# Altium footprint library Passives.PcbLib: 126 footprints (part 3 of 8)
Each footprint in its own frame and in the unit in brackets; x right, y up, seen from the top. Pads: shape width x height; smd on the part's side, far side on the other; paste and mask are expansions set on the pad; w line width, h text height; cw(c..) or ccw(c..) is an arc to the next point about the centre after c.
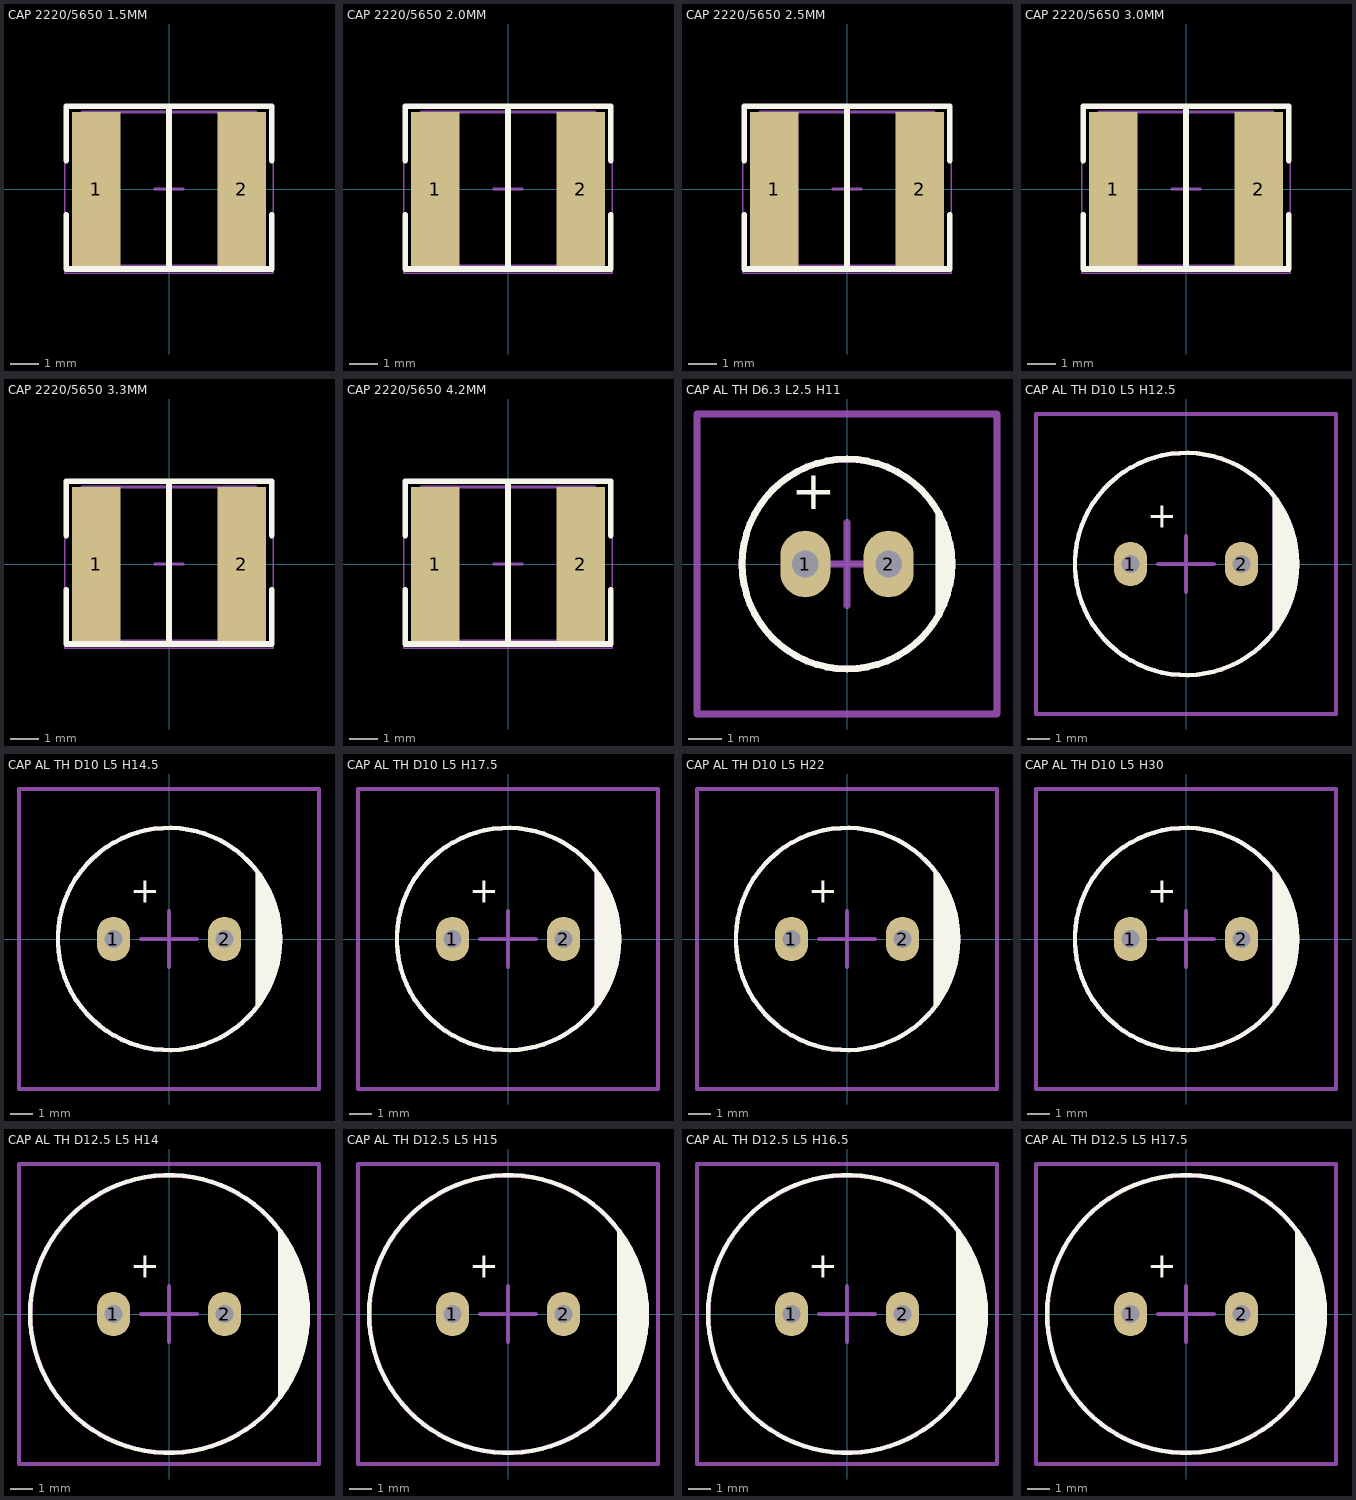
[diagram p2: the footprints below, top view; thin cyan lines are the x and y axes]

## CAP 2220/5650 1.5MM [mm] "Chip Capacitor, 2-Leads, Body 5.70x5.00mm, IPC Medium Density"
height 1.5
pads (2):
  rect 1.7x5.4 smd: 1(-2.55,0) 2(2.55,0)
Top Overlay:
  lines w0.2: -3.6,-0.9 -3.6,-2.8 3.6,-2.8 3.6,-0.9 ; -3.6,1 -3.6,2.9 3.6,2.9 3.6,1 ; 0,-2.8 0,2.9
Top Component Outline:
  lines w0.1: -3.05,-2.7 -3.05,2.7 3.05,2.7 3.05,-2.7 -3.05,-2.7
Top Courtyard:
  lines w0.05: -3.65,-2.95 -3.65,2.95 3.65,2.95 3.65,-2.95 -3.65,-2.95
  lines w0.1: -0.5,0 0.5,0 ; 0,-0.5 0,0.5
3D body "CAP 2020-1.5mm.STEP": height 1.5, standoff 0, extent -2.85,-2.5 2.85,2.5

## CAP 2220/5650 2.0MM [mm] "Chip Capacitor, 2-Leads, Body 5.70x5.00mm, IPC Medium Density"
height 2
pads (2):
  rect 1.7x5.4 smd: 1(-2.55,0) 2(2.55,0)
Top Overlay:
  lines w0.2: -3.6,-0.9 -3.6,-2.8 3.6,-2.8 3.6,-0.9 ; -3.6,1 -3.6,2.9 3.6,2.9 3.6,1 ; 0,-2.8 0,2.9
Top Component Outline:
  lines w0.1: -3.05,-2.7 -3.05,2.7 3.05,2.7 3.05,-2.7 -3.05,-2.7
Top Courtyard:
  lines w0.05: -3.65,-2.95 -3.65,2.95 3.65,2.95 3.65,-2.95 -3.65,-2.95
  lines w0.1: -0.5,0 0.5,0 ; 0,-0.5 0,0.5
3D body "CAP 2020-2.0mm.STEP": height 2, standoff 0, extent -2.85,-2.5 2.85,2.5

## CAP 2220/5650 2.5MM [mm] "Chip Capacitor, 2-Leads, Body 5.70x5.00mm, IPC Medium Density"
height 2.5
pads (2):
  rect 1.7x5.4 smd: 1(-2.55,0) 2(2.55,0)
Top Overlay:
  lines w0.2: -3.6,-0.9 -3.6,-2.8 3.6,-2.8 3.6,-0.9 ; -3.6,1 -3.6,2.9 3.6,2.9 3.6,1 ; 0,-2.8 0,2.9
Top Component Outline:
  lines w0.1: -3.05,-2.7 3.05,-2.7 3.05,2.7 -3.05,2.7 -3.05,-2.7
Top Courtyard:
  lines w0.05: -3.65,-2.95 3.65,-2.95 3.65,2.95 -3.65,2.95 -3.65,-2.95
  lines w0.1: -0.5,0 0.5,0 ; 0,-0.5 0,0.5
3D body "CAP 2020-2.5mm.STEP": height 2.5, standoff 0, extent -2.85,-2.5 2.85,2.5

## CAP 2220/5650 3.0MM [mm] "Chip Capacitor, 2-Leads, Body 5.70x5.00mm, IPC Medium Density"
height 3
pads (2):
  rect 1.7x5.4 smd: 1(-2.55,0) 2(2.55,0)
Top Overlay:
  lines w0.2: -3.6,-0.9 -3.6,-2.8 3.6,-2.8 3.6,-0.9 ; -3.6,1 -3.6,2.9 3.6,2.9 3.6,1 ; 0,-2.8 0,2.9
Top Component Outline:
  lines w0.1: -3.05,-2.7 -3.05,2.7 3.05,2.7 3.05,-2.7 -3.05,-2.7
Top Courtyard:
  lines w0.05: -3.65,-2.95 -3.65,2.95 3.65,2.95 3.65,-2.95 -3.65,-2.95
  lines w0.1: -0.5,0 0.5,0 ; 0,-0.5 0,0.5
3D body "CAP 2020-3.0mm.STEP": height 3, standoff 0, extent -2.85,-2.5 2.85,2.5

## CAP 2220/5650 3.3MM [mm] "Chip Capacitor, 2-Leads, Body 5.70x5.00mm, IPC Medium Density"
height 3.3
pads (2):
  rect 1.7x5.4 smd: 1(-2.55,0) 2(2.55,0)
Top Overlay:
  lines w0.2: -3.6,-0.9 -3.6,-2.8 3.6,-2.8 3.6,-0.9 ; -3.6,1 -3.6,2.9 3.6,2.9 3.6,1 ; 0,-2.8 0,2.9
Top Component Outline:
  lines w0.1: -3.05,-2.7 3.05,-2.7 3.05,2.7 -3.05,2.7 -3.05,-2.7
Top Courtyard:
  lines w0.05: -3.65,-2.95 3.65,-2.95 3.65,2.95 -3.65,2.95 -3.65,-2.95
  lines w0.1: -0.5,0 0.5,0 ; 0,-0.5 0,0.5
3D body "CAP 2020-3.3mm.STEP": height 3.3, standoff 0, extent -2.85,-2.5 2.85,2.5

## CAP 2220/5650 4.2MM [mm] "Chip Capacitor, 2-Leads, Body 5.70x5.00mm, IPC Medium Density"
height 4.2
pads (2):
  rect 1.7x5.4 smd: 1(-2.55,0) 2(2.55,0)
Top Overlay:
  lines w0.2: -3.6,-0.9 -3.6,-2.8 3.6,-2.8 3.6,-0.9 ; -3.6,1 -3.6,2.9 3.6,2.9 3.6,1 ; 0,-2.8 0,2.9
Top Component Outline:
  lines w0.1: -3.05,-2.7 3.05,-2.7 3.05,2.7 -3.05,2.7 -3.05,-2.7
Top Courtyard:
  lines w0.05: -3.65,-2.95 3.65,-2.95 3.65,2.95 -3.65,2.95 -3.65,-2.95
  lines w0.1: -0.5,0 0.5,0 ; 0,-0.5 0,0.5
3D body "CAP 2020-4.2mm.STEP": height 4.2, standoff 0, extent -2.85,-2.5 2.85,2.5

## CAP AL TH D6.3 L2.5 H11 [mm] "6.3MM Diameter, 2.5MM Lead Spacing Aluminium Capacitor"
height 12.5
pads (2):
  oval 1.5x2 hole 0.8: 1(-1.25,0) 2(1.25,0)
Top Overlay:
  circle w0.2: c0,0 r3.15
  region: 2.75,1.55 3.15,0.75 3.15,-0.75 2.75,-1.55
  lines w0.2: 2.75,-1.55 2.75,1.55
  text "+" at -1.675,1.25 h2
Top Component Outline:
  circle w0.2: c0,0 r3.15
  lines w0.2: 2.75,-1.536 2.75,1.536
Top Courtyard:
  lines w0.2: -1.25,0 1.25,0 ; 0,-1.25 0,1.25 ; -4.5,-4.5 -4.5,4.5 4.5,4.5 4.5,-4.5 -4.5,-4.5
3D body "CAP ALTH D-6.3MM L-2.5MM H-11.5MM.STEP": height 11.7, standoff -3, extent -3.15,-3.149 3.15,3.149

## CAP AL TH D10 L5 H12.5 [mm] "10MM Diameter, 5MM Lead Spacing Aluminium Capacitor"
height 12.5
pads (2):
  oval 1.5x2 hole 0.8: 1(-2.5,0) 2(2.5,0)
Top Overlay:
  circle w0.2: c0,0 r5
  region: 4,3 4.5,2.25 5,0.75 5,-0.75 4.75,-1.5 4.25,-2.75 4,-3
  lines w0.2: 4,-3 4,3
  text "+" at -1.75,1.25 h2
Top Component Outline:
  circle w0.2: c0,0 r5
  lines w0.2: 4,-3 4,3
Top Courtyard:
  lines w0.2: -1.25,0 1.25,0 ; 0,-1.25 0,1.25 ; -6.75,-6.75 -6.75,0 -6.75,6.75 0,6.75 6.75,6.75 6.75,0 6.75,-6.75 0,-6.75 -6.75,-6.75
3D body "CAP ALTH D-10MM L-5.0MM H-12.5MM.STEP": height 12.7, standoff -3, extent -5,-4.999 5,4.999

## CAP AL TH D10 L5 H14.5 [mm] "10MM Diameter, 5MM Lead Spacing Aluminium Capacitor"
height 14.5
pads (2):
  oval 1.5x2 hole 0.8: 1(-2.5,0) 2(2.5,0)
Top Overlay:
  circle w0.2: c0,0 r5
  region: 4,3 4.5,2.25 5,0.75 5,-0.75 4.75,-1.5 4.25,-2.75 4,-3
  lines w0.2: 4,-3 4,3
  text "+" at -1.75,1.25 h2
Top Component Outline:
  circle w0.2: c0,0 r5
  lines w0.2: 4,-3 4,3
Top Courtyard:
  lines w0.2: -1.25,0 1.25,0 ; 0,-1.25 0,1.25 ; -6.75,-6.75 0,-6.75 6.75,-6.75 6.75,0 6.75,6.75 0,6.75 -6.75,6.75 -6.75,0 -6.75,-6.75
3D body "CAP ALTH D-10MM L-5.0MM H-14.5MM.STEP": height 14.7, standoff -3, extent -5,-4.996 5,4.997

## CAP AL TH D10 L5 H17.5 [mm] "10MM Diameter, 5MM Lead Spacing Aluminium Capacitor"
height 17.5
pads (2):
  oval 1.5x2 hole 0.8: 1(-2.5,0) 2(2.5,0)
Top Overlay:
  circle w0.2: c0,0 r5
  region: 4,3 4.5,2.25 5,0.75 5,-0.75 4.75,-1.5 4.25,-2.75 4,-3
  lines w0.2: 4,-3 4,3
  text "+" at -1.75,1.25 h2
Top Component Outline:
  circle w0.2: c0,0 r5
  lines w0.2: 4,-3 4,3
Top Courtyard:
  lines w0.2: -1.25,0 1.25,0 ; 0,-1.25 0,1.25 ; -6.75,-6.75 -6.75,0 -6.75,6.75 0,6.75 6.75,6.75 6.75,0 6.75,-6.75 0,-6.75 -6.75,-6.75
3D body "CAP ALTH D-10MM L-5.0MM H-17.5MM.STEP": height 17.7, standoff -3, extent -5,-4.999 5,4.999

## CAP AL TH D10 L5 H22 [mm] "10MM Diameter, 5MM Lead Spacing Aluminium Capacitor"
height 22
pads (2):
  oval 1.5x2 hole 0.8: 1(-2.5,0) 2(2.5,0)
Top Overlay:
  circle w0.2: c0,0 r5
  region: 4,3 4.5,2.25 5,0.75 5,-0.75 4.75,-1.5 4.25,-2.75 4,-3
  lines w0.2: 4,-3 4,3
  text "+" at -1.75,1.25 h2
Top Component Outline:
  circle w0.2: c0,0 r5
  lines w0.2: 4,-3 4,3
Top Courtyard:
  lines w0.2: -1.25,0 1.25,0 ; 0,-1.25 0,1.25 ; -6.75,-6.75 0,-6.75 6.75,-6.75 6.75,0 6.75,6.75 0,6.75 -6.75,6.75 -6.75,0 -6.75,-6.75
3D body "CAP ALTH D-10MM L-5.0MM H-22MM.STEP": height 22.2, standoff -3, extent -5,-5 5,5

## CAP AL TH D10 L5 H30 [mm] "10MM Diameter, 5MM Lead Spacing Aluminium Capacitor"
height 30
pads (2):
  oval 1.5x2 hole 0.8: 1(-2.5,0) 2(2.5,0)
Top Overlay:
  circle w0.2: c0,0 r5
  region: 4,3 4.5,2.25 5,0.75 5,-0.75 4.75,-1.5 4.25,-2.75 4,-3
  lines w0.2: 4,-3 4,3
  text "+" at -1.75,1.25 h2
Top Component Outline:
  circle w0.2: c0,0 r5
  lines w0.2: 4,-3 4,3
Top Courtyard:
  lines w0.2: -1.25,0 1.25,0 ; 0,-1.25 0,1.25 ; -6.75,-6.75 0,-6.75 6.75,-6.75 6.75,0 6.75,6.75 0,6.75 -6.75,6.75 -6.75,0 -6.75,-6.75
3D body "CAP ALTH D-10MM L-5.0MM H-30MM.STEP": height 30.2, standoff -3, extent -5,-4.991 5,4.992

## CAP AL TH D12.5 L5 H14 [mm] "12.5MM Diameter, 5MM Lead Spacing Aluminium Capacitor"
height 14
pads (2):
  oval 1.5x2 hole 0.8: 1(-2.5,0) 2(2.5,0)
Top Overlay:
  circle w0.2: c0,0 r6.25
  region: 5,-3.75 5,3.75 5.75,2.5 6.25,1 6.25,0 6,-1.5 5.75,-2.5
  lines w0.2: 5,-3.75 5,3.75
  text "+" at -1.75,1.25 h2
Top Component Outline:
  circle w0.2: c0,0 r6.241
  lines w0.2: 5,-3.75 5,3.75
Top Courtyard:
  lines w0.2: -1.25,0 1.25,0 ; 0,-1.25 0,1.25 ; -6.75,-6.75 -6.75,0 -6.75,6.75 0,6.75 6.75,6.75 6.75,0 6.75,-6.75 0,-6.75 -6.75,-6.75
3D body "CAP ALTH D-12.5MM L-5.0MM H-14MM .STEP": height 14.2, standoff -3, extent -6.241,-6.25 6.25,6.25

## CAP AL TH D12.5 L5 H15 [mm] "12.5MM Diameter, 5MM Lead Spacing Aluminium Capacitor"
height 15
pads (2):
  oval 1.5x2 hole 0.8: 1(-2.5,0) 2(2.5,0)
Top Overlay:
  circle w0.2: c0,0 r6.25
  region: 5,-3.75 5,3.75 5.75,2.5 6.25,1 6.25,0 6,-1.5 5.75,-2.5
  lines w0.2: 5,-3.75 5,3.75
  text "+" at -1.75,1.25 h2
Top Component Outline:
  circle w0.2: c0,0 r6.241
  lines w0.2: 5,-3.75 5,3.75
Top Courtyard:
  lines w0.2: -1.25,0 1.25,0 ; 0,-1.25 0,1.25 ; -6.75,-6.75 0,-6.75 6.75,-6.75 6.75,0 6.75,6.75 0,6.75 -6.75,6.75 -6.75,0 -6.75,-6.75
3D body "CAP ALTH D-12.5MM L-5.0MM H-15MM .STEP": height 15.2, standoff -3, extent -6.25,-6.245 6.25,6.245

## CAP AL TH D12.5 L5 H16.5 [mm] "12.5MM Diameter, 5MM Lead Spacing Aluminium Capacitor"
height 16.5
pads (2):
  oval 1.5x2 hole 0.8: 1(-2.5,0) 2(2.5,0)
Top Overlay:
  circle w0.2: c0,0 r6.25
  region: 5,-3.75 5,3.75 5.75,2.5 6.25,1 6.25,0 6,-1.5 5.75,-2.5
  lines w0.2: 5,-3.75 5,3.75
  text "+" at -1.75,1.25 h2
Top Component Outline:
  circle w0.2: c0,0 r6.241
  lines w0.2: 5,-3.75 5,3.75
Top Courtyard:
  lines w0.2: -1.25,0 1.25,0 ; 0,-1.25 0,1.25 ; -6.75,-6.75 0,-6.75 6.75,-6.75 6.75,0 6.75,6.75 0,6.75 -6.75,6.75 -6.75,0 -6.75,-6.75
3D body "CAP ALTH D-12.5MM L-5.0MM H-16.5MM .STEP": height 16.7, standoff -3, extent -6.25,-6.248 6.25,6.249

## CAP AL TH D12.5 L5 H17.5 [mm] "12.5MM Diameter, 5MM Lead Spacing Aluminium Capacitor"
height 17.5
pads (2):
  oval 1.5x2 hole 0.8: 1(-2.5,0) 2(2.5,0)
Top Overlay:
  circle w0.2: c0,0 r6.25
  region: 5,-3.75 5,3.75 5.75,2.5 6.25,1 6.25,0 6,-1.5 5.75,-2.5
  lines w0.2: 5,-3.75 5,3.75
  text "+" at -1.75,1.25 h2
Top Component Outline:
  circle w0.2: c0,0 r6.241
  lines w0.2: 5,-3.75 5,3.75
Top Courtyard:
  lines w0.2: -1.25,0 1.25,0 ; 0,-1.25 0,1.25 ; -6.75,-6.75 0,-6.75 6.75,-6.75 6.75,0 6.75,6.75 0,6.75 -6.75,6.75 -6.75,0 -6.75,-6.75
3D body "CAP ALTH D-12.5MM L-5.0MM H-17.5MM .STEP": height 17.7, standoff -3, extent -6.25,-6.247 6.25,6.247